# Altium schematic symbol library Induct-filter.SchLib: 218 symbols (part 2 of 2)
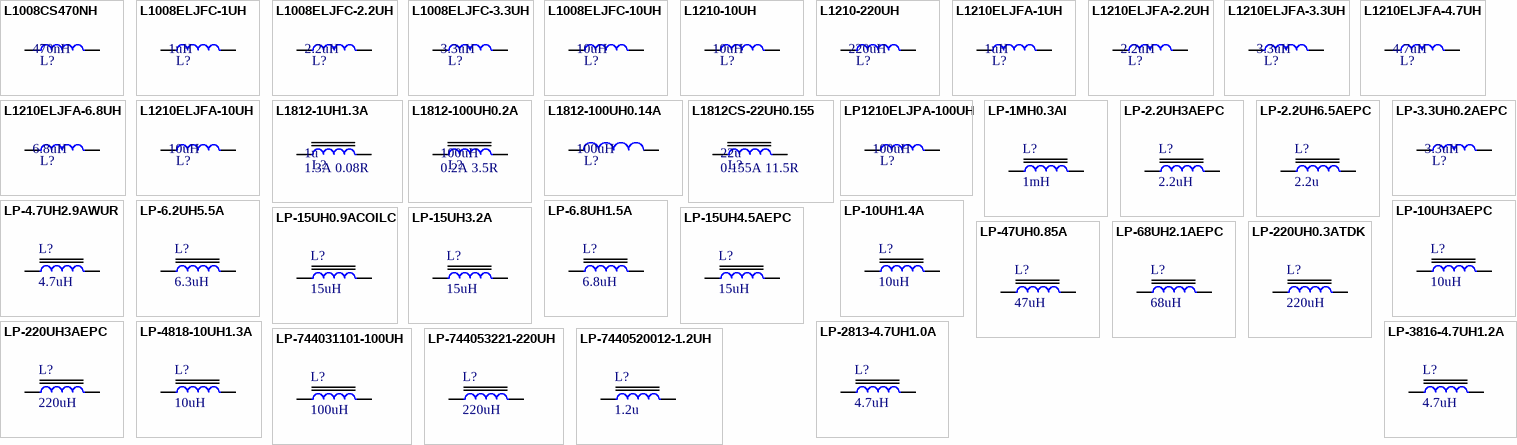
[diagram p6: symbols L1008CS470NH to LP-7440520012-1.2UH]

## LP-68UH2.1AEPC
designator L?, comment 68uH
Power inductor 12.8x12.8x8mm; Manufacturer: Epcos; Manufacturer No: B82477G4683M; Comment2: 2.1A  0.12Ohm; Sort: 320; Tech: SMDR; Package: 12.8x12.8x8mm; Price: 0
signal-integrity model Model Name (Model Description)
footprint L12.8X12.8X8 (Power inductor 12.8x12.8x8mm EPCOS)
pins: 1, 2

## LP-220UH0.3ATDK
designator L?, comment 220uH
Power inductor 7.3x7.3x4.5mm; Manufacturer: TDK; Manufacturer No: SLF7045T-221MR33-PF; Comment2: 0.33A 0.52R; Sort: 320; Tech: SMDR; Price: 0
signal-integrity model Model Name (Model Description)
footprint L7X7X4.5 (SMD inductor 7x7x4.5mm shielded)
pins: 1, 2

## LP-220UH3AEPC
designator L?, comment 220uH
Power inductor 7.3x7.3x4.5mm; Manufacturer: Epcos; Manufacturer No: B82472G6224M000; Comment2: 0.36A 0.88R; Sort: 320; Tech: SMDR; Price: 0
signal-integrity model Model Name (Model Description)
footprint L7.3X7.3X4.5 (SMD inductor 7.3x7.3x4.5mm shielded)
pins: 1, 2

## LP-2813-4.7UH1.0A
designator L?, comment 4.7uH
Power inductor 2.8x2.8x1.3mm WE-TPC; Manufacturer: Wurth Elektronik, Farnell; Manufacturer No: 744029004, 1635826; Comment2: 0.8Asat 0.2R; Sort: 320; Tech: SMDR; Package: Induct 2.8x2.8; Price: 1.05
signal-integrity model Model Name (Model Description)
footprint LP2.8X2.8X1.3 (SMD Power inductor 2.8x2.8x1.3mm shielded)
pins: 1, 2

## LP-3816-4.7UH1.2A
designator L?, comment 4.7uH
Power inductor 3.8x3.8x1.6mm WE-TPC; Manufacturer: Wurth Elektronik, Farnell; Manufacturer No: 744031004, 16535834; Comment2: 1.2A 105mR; Sort: 320; Tech: SMDR; Package: Induct 3.8x3.8; Price: 1.05
signal-integrity model Model Name (Model Description)
footprint LP3.8X3.8X1.6 (SMD Power inductor 3.8x3.8x1.6mm shielded)
pins: 1, 2

## LP-4818-10UH1.3A
designator L?, comment 10uH
Power inductor WE-TPC type LH; Manufacturer: Wurth Elektronik, Farnell; Manufacturer No: 744042100, 1635842; Comment2: 0.15Rdc 1.3Asat 30%; Sort: 320; Tech: SMDR; Package: Pow Induct 4.8x4.8x1.8mm; Price: 1
signal-integrity model Model Name (Model Description)
footprint LP4.8X4.8X1.8 (SMD Power inductor 4.8x4.8x1.8mm shielded)
pins: 1, 2

## LP-744031101-100UH
designator L?, comment 100uH
Power inductor 3.8x3.8x1.6mm, Type L; Manufacturer: Wurth Elektronik, Farnell; Manufacturer No: 744031101, 1635837; Comment2: 30%  0.25Amax  2.4Rdc; Sort: 320; Tech: SMDR; Package: Pow Induct 3.8x3.8x1.6mm; Price: 1.1
signal-integrity model Model Name (Model Description)
footprint LP3.8X3.8X1.6 (SMD Power inductor 3.8x3.8x1.6mm shielded)
pins: 1, 2

## LP-744053221-220UH
designator L?, comment 220uH
Power inductor 5.8x5.8x2.8mm, Type L; Manufacturer: Wurth Elektronik, Farnell; Manufacturer No: 744053221; Comment2: 0.29Asat, 1.25R, 30%; Sort: 320; Tech: SMDR; Package: Pow Induct 5.8x5.8x2.8mm; Price: 0
signal-integrity model Model Name (Model Description)
footprint LP5.8X5.8X2.8 (SMD Power inductor 5.8x5.8x2.8mm shielded)
pins: 1, 2

## LP-7440520012-1.2UH
designator L?, comment 1.2u
Power inductor 5.8x5.8x1.8mm, Type L; Manufacturer: Wurth Elektronik; Manufacturer No: 7440520012; Comment2: 3A, 0.02R, 1.2u at 0.1 MHz; Sort: 320; Tech: SMDR; Package: Pow Induct 5.8x5.8x1.8mm; Price: 0
signal-integrity model Model Name (Model Description)
footprint LP5.8X5.8X1.8 (SMD Power inductor 5.8x5.8x1.8mm shielded)
pins: 1, 2

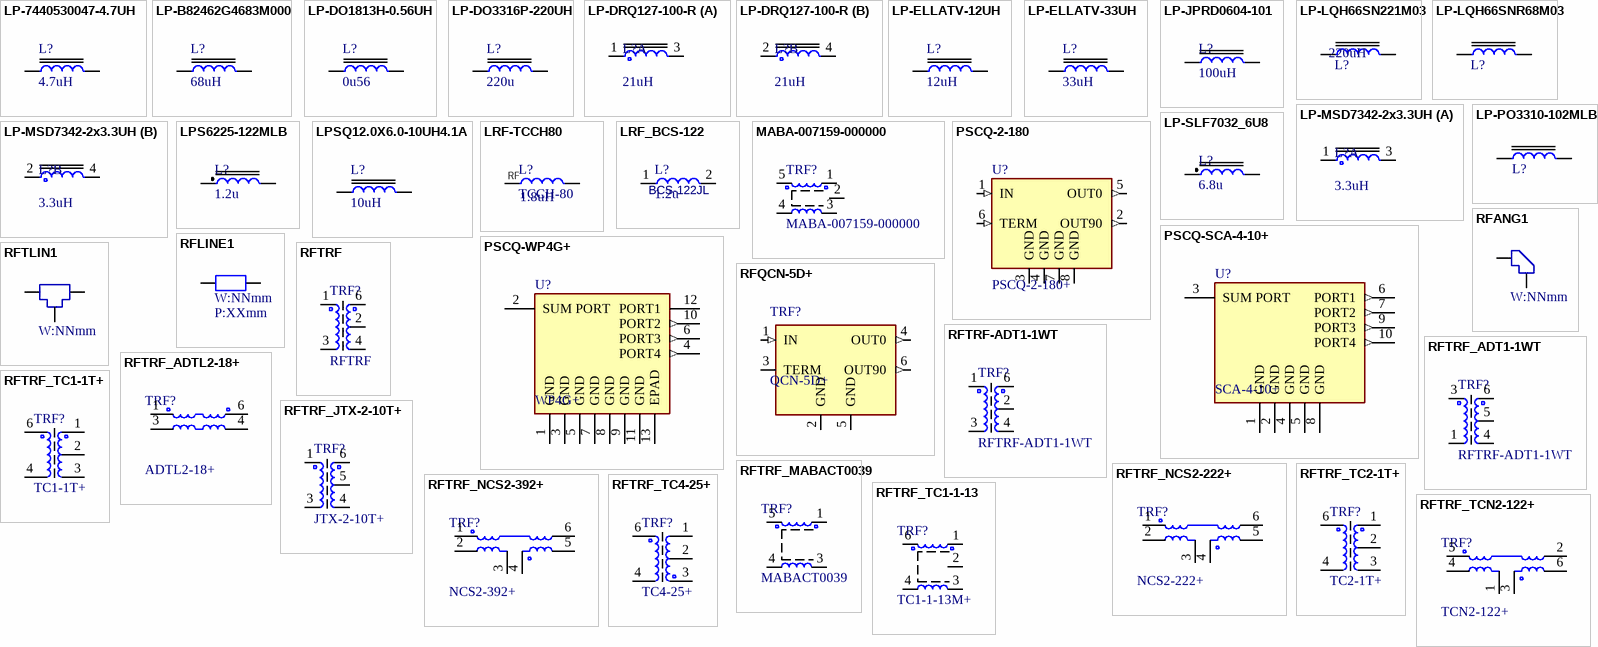
[diagram p4: symbols LP-7440530047-4.7UH to RFTRF_TCN2-122+]

## LP-7440530047-4.7UH
designator L?, comment 4.7uH
Power inductor 5.8x5.8x2.8mm, Type WE-TPC; Manufacturer: Wurth Elektronik, Farnell; Manufacturer No: 7440530047, 1635861; Comment2: 2.4A, 0.038R, 30%; Sort: 320; Tech: SMDR; Package: Pow Induct 5.8x5.8x2.8mm; Price: 1.1
signal-integrity model Model Name (Model Description)
footprint LP5.8X5.8X2.8 (SMD Power inductor 5.8x5.8x2.8mm shielded)
pins: 1, 2

## LP-B82462G4683M000
designator L?, comment 68uH
Power inductor 6.3x6.3x3.0mm; Manufacturer: Epcos; Manufacturer No: B82462G4683M000; Comment2: 0.65A, 0.41R fl 0.1 MHz; Sort: 320; Tech: SMDR; Price: 0
signal-integrity model Model Name (Model Description)
footprint LP6.3X6.3X3.0 (SMD Power inductor 6.3x6.3x3.0mm shielded)
pins: 1, 2

## LP-DO1813H-0.56UH
designator L?, comment 0u56
Power inductor DO1813H; Manufacturer: Coilcraft; Manufacturer No: DO1813H-561ML; Comment2: 6A 0.01R; Sort: 320; Tech: SMDR; Package: Pow Inductor DO1813H; Price: 0
signal-integrity model Model Name (Model Description)
footprint LDO1813H (Power Inductor 9x6x5mm)
pins: 1, 2

## LP-DO3316P-220UH
designator L?, comment 220u
Power inductor DO3316P; Manufacturer: Coilcraft; Manufacturer No: DO3316P-224 L; Comment2: 0.8A 0.61R; Sort: 320; Tech: SMDR; Package: Pow Inductor DO3316P; Price: 0
signal-integrity model Model Name (Model Description)
footprint LDO3316 (DO3316 power inductor smd)
pins: 1, 2

## LP-DRQ127-100-R
designator L?, comment 21uH
Power dual inductor 12.5x12.5x8mm; Manufacturer: Coilcraft; Manufacturer No: DRQ127-100-R; Comment2: 3.02Arms  34.3mR; Sort: 320; Tech: SMDR; Package: Induct 12.5x12.5x8mm; Price: 1.08; Supplier: Digi-Key; Supplier No: 513-1143-2-ND
footprint DRQ127 (Power inductor 12.5x12.5x8mm)
part A pins: 1, 3
part B pins: 2, 4

## LP-ELLATV-12UH
designator L?, comment 12uH
Power inductor 10x10x4.2mm shielded; Manufacturer: Panasonic, Farnell; Manufacturer No: ELLATV120M, 1539524; Comment2: 2.3A 25mR 20%; Sort: 320; Tech: SMDR; Package: Pow Induct 10x10x4.2mm; Price: 1,6
signal-integrity model Model Name (Model Description)
footprint LP10X10X4.2 (Power inductor 10x10x4.2mm)
pins: 1, 2

## LP-ELLATV-33UH
designator L?, comment 33uH
Power inductor 10x10x4.2mm shielded; Manufacturer: Panasonic, Digikey; Manufacturer No: ELLATV330M, PCD1754CT-ND; Comment2: 1.8A 62mR 20%; Sort: 320; Tech: SMDR; Package: Pow Induct 10x10x4.2mm; Price: 2
signal-integrity model Model Name (Model Description)
footprint LP10X10X4.2 (Power inductor 10x10x4.2mm)
pins: 1, 2

## LP-JPRD0604-101
designator L?, comment 100uH
SMD power inductor shielded; Manufacturer: Jantek TW; Manufacturer No: JPRD0604-101M; Comment2: 0.65A 0.36R; Sort: 310; Tech: SMDR; Price: 0
signal-integrity model Model Name (Model Description)
footprint L-JPRD0604 (SMD inductor 6.7x6.7x4mm shielded)
pins: 1, 2

## LP-LQH66SN221M03
designator L?, comment 220uH
Inductor Large Current Size 2525; Manufacturer: Murata; Manufacturer No: LQH66SN221M03; Comment2: 0.35A 0.79Rdc 20%; Sort: 310; Tech: SMDR; Package: Inductor Chip 2525; Price: 0
signal-integrity model Model Name (Model Description)
footprint LC2525-1 (Chip capacitor 6.3x6.3x4.7mm)
footprint LC0603-1 (Chip  inductor  0603 (1608))
footprint LC0805-1 (Chip inductor  0805)
pins: 1, 2

## LP-LQH66SNR68M03
designator L?, comment 0u68  (value not drawn)
Inductor Large Current Size 2525; Manufacturer: Murata; Manufacturer No: LQH66SNR68M03; Comment2: 5.3A 0.010Rdc 20%; Sort: 310; Tech: SMDR; Package: Inductor Chip 2525; Price: 0
signal-integrity model Model Name (Model Description)
footprint LC2525-1 (Chip capacitor 6.3x6.3x4.7mm)
footprint LC0603-1 (Chip  inductor  0603 (1608))
footprint LC0805-1 (Chip inductor  0805)
pins: 1, 2

## LP-MSD7342-2x3.3UH
designator L?, comment 3.3uH
Power dual inductor 7.3x7.3x4.2mm; Manufacturer: Coilcraft; Manufacturer No: MSD7342-332MLB; Comment2: 2.05Arms  37mR; Sort: 320; Tech: SMDR; Package: Induct 7.3x7.3x4.2mm; Price: 1
signal-integrity model Model Name (Model Description)
footprint LP7.5X7.5X4.6-4 (SMD Power inductor 7.3x7.3x3.2mm shielded 4pin dual induct)
part A pins: 1, 3
part B pins: 2, 4

## LP-PO3310-102MLB
designator L?, comment LPO3310-102  (value not drawn)
Low profile inductor 1uH 1.6A; Manufacturer: Coilcraft; Manufacturer No: LPO3310-102MLB; Comment2: 1uH 1.6A 0.076R; Sort: 310; Tech: SMDR; Package: LPO3310; Price: 0
signal-integrity model Model Name (Model Description)
footprint LPO3310 (SMD inductor 4.1x3.3x1mm shielded)
pins: 1, 2

## LP-SLF7032_6U8
designator L?, comment 6.8u
Power inductor; Manufacturer: TDK; Manufacturer No: SLF7032T-6R8M1R6; Comment2: 1.6A 0.041R; Sort: 310; Tech: SMDR; Price: 0
signal-integrity model Model Name (Model Description)
footprint SLF7032_1 (SMD Inductor for power line)
pins: 1, 2

## LPS6225-122MLB
designator L?, comment 1.2u
Power inductor; Manufacturer: Coilcraft; Manufacturer No: LPS6225-122MLB; Comment2: 5.4A 0.04R; Sort: 310; Tech: SMDR; Price: 0
signal-integrity model Model Name (Model Description)
footprint LPS6225 (Power inductor 6x6x2.4mm)
pins: 1, 2

## LPSQ12.0X6.0-10UH4.1A
designator L?, comment 10uH
Power inductor 12.0x12.0x6.0mm WE-PD; Manufacturer: Wuerth Elektronik; Manufacturer No: 74477110; Comment2: 4.1A 5.6Asat 0.025R 20%; Sort: 320; Tech: SMDR; Package: Induct 12.0X12.0X6.0mm; Price: 1.82; RevDate: 13.02.09
signal-integrity model Model Name (Model Description)
footprint LP12.0X12.0X6 (Power inductor 12.0x12.0x6.0mm Wuerth WE-PD L)
pins: 1, 2

## LRF-TCCH80
designator L?, comment TCCH-80  Comment2: 1.8uH
Wideband RF choke; Manufacturer: MiniCircuits; Manufacturer No: TCCH-80+; Sort: 312; Tech: SMDR; Package: GU1041; Price: 0.8
footprint LGU1041 (RF Choke 3.81x3.81mm 4pin)
pins: 1, 3
text: RF

## LRF_BCS-122
designator L?, comment 1.2u  Manufacturer No: BCS-122JL
Wideband RF choke; Manufacturer: Coilcraft; Sort: 312; Tech: SMDR; Comment2: 0.2A  1.05R; Price: 0.8
footprint LRF-BCS122 (Conical inductor 3.05x2.54x2.8mm)
pins: 1, 2

## MABA-007159-000000
designator TRF?
RF transformator Macom 5pin; Sort: 330; Tech: SMDR; Price: 0
footprint SM-22
pins: 1, 2, 3, 4, 5

## PSCQ-2-180
designator U?, comment PSCQ-2-180+
Power Splitter / Combiner 120-180MHz; Manufacturer: Mini Circuits; Sort: 510; Tech: SMDR; Manufacturer No: PSCQ-2-180+; Package: A01; Price: 0
footprint AO1 (PSCQ-2 Minicircuits tht)
pins: 1 IN (in), 2 OUT90 (out), 3 GND (power), 4 GND (power), 5 OUT0 (out), 6 TERM (in), 7 GND (power), 8 GND (power)

## PSCQ-SCA-4-10+
designator U?, comment SCA-4-10+
Power Splitter / Combiner 4-Way, 50R, 5 MHz to 1000 MHz; Manufacturer: Mini Circuits; Sort: 510; Tech: SMDR; Manufacturer No: SCA-4-10+; Package: DZ943; Price: 0
footprint DZ943
pins: 1 GND (power), 2 GND (power), 3 SUM PORT, 4 GND (power), 5 GND (power), 6 PORT1 (out), 7 PORT2 (out), 8 GND (power), 9 PORT3 (out), 10 PORT4 (out)

## PSCQ-WP4G+
designator U?, comment WP4G+
Power Splitter / Combiner 4-Way, 50R, 1240 MHz to 1660 MHz; Manufacturer: Mini Circuits; Sort: 510; Tech: SMDR; Manufacturer No: WP4G+; Package: DQ1225; Price: 0
footprint DQ1225 (QFN, 12-Leads, Body 3,0x3,0mm (max), Pitch 0,51mm, IPC Medium Density)
pins: 1 GND (power), 2 SUM PORT, 3 GND (power), 4 PORT4 (out), 5 GND (power), 6 PORT3 (out), 7 GND (power), 8 GND (power), 9 GND (power), 10 PORT2 (out), 11 GND (power), 12 PORT1, 13 EPAD (power)

## RFANG1
designator RFA?, comment W:NNmm  (no BOM)
RF line Angle; Sort: 900; Tech: MECH; Price: 0
signal-integrity model Model Name (Model Description)
footprint RFA1.19MM (RF angle 1.19mm wide)
pins: 1, 2

## RFLINE1
designator RFL?, comment W:NNmm  Comment2: P:XXmm  (no BOM)
RF line; Sort: 900; Tech: MECH; Price: 0
signal-integrity model Model Name (Model Description)
footprint RFL1.19MM (RF line 1.19mm wide)
pins: 1, 2

## RFQCN-5D+
designator TRF?, comment QCN-5D+
Power Splitter / Combiner 330-580MHz; Manufacturer: MiniCircuits; Sort: 330; Tech: SMDR; Manufacturer No: QCN-5D+; Package: Chip Filter 1206 6pin; Price: 0
footprint FV1206-6 (Filter chip 1206 6pad)
pins: 1 IN (in), 2 GND (power), 3 TERM, 4 OUT0 (out), 5 GND (power), 6 OUT90 (out)

## RFTLIN1
designator RFT?, comment W:NNmm  (no BOM)
RF line T; Sort: 900; Tech: MECH; Price: 0
signal-integrity model Model Name (Model Description)
footprint RFt1.19MM (RF Tjoin 1.19mm wide)
pins: 1, 2, 3

## RFTRF
designator TRF?
RF transformator MiniCircuits 6pin; Sort: 330; Tech: SMDR; Price: 0
footprint RFTRF-CD452
footprint AT224-1 (RF transformer 5pin)
footprint SM-22
pins: 1, 2, 3, 4, 5 hidden, 6

## RFTRF-ADT1-1WT
designator TRF?
RF transformator MiniCircuits 6pin; Sort: 330; Tech: SMDR; Manufacturer: *; Manufacturer No: *; Price: 0
footprint RFTRF-CD452
pins: 1, 2, 3, 4, 5 hidden, 6

## RFTRF_ADT1-1WT
designator TRF?, comment RFTRF-ADT1-1WT
RF transformator MiniCircuits 6pin; Sort: 330; Tech: SMDR; Manufacturer: *; Manufacturer No: *; Price: 0
footprint BH292 (RF Transformer 6 pin 7.1x7.9x5.7mm)
pins: 1, 2 hidden, 3, 4, 5, 6

## RFTRF_ADTL2-18+
designator TRF?, comment ADTL2-18+
RF transformer MiniCircuits; Comment2: 50 Ohm 30 to 1800MHz; Sort: 330; Tech: SMDR; Manufacturer: MiniCircuits; Manufacturer No: ADTL2-18+; Package: RF trf CD542
footprint RFTRF-CD452
pins: 1, 3, 4, 6

## RFTRF_JTX-2-10T+
designator TRF?, comment JTX-2-10T+
RF transformer 50-1000MHz 75R; Manufacturer: MiniCircuits; Sort: 330; Tech: SMDR; Manufacturer No: JTX-2-10T+; Comment2: 50 - 1000MHz  75R; Package: BH292; Price: 7
footprint BH292 (RF Transformer 6 pin 7.1x7.9x5.7mm)
pins: 1, 2 hidden, 3, 4, 5, 6

## RFTRF_MABACT0039
designator TRF?, comment MABACT0039
RF balun  5pin; Manufacturer: Macom; Sort: 330; Tech: SMDR; Manufacturer No: MABACT0039; Package: RF trf SM-138; Price: 0
footprint RFTRF-SM-138 (RF balun 5pin)
pins: 1, 2 hidden, 3, 4, 5

## RFTRF_NCS2-222+
designator TRF?, comment NCS2-222+
RF transformer MiniCircuits; Comment2: 50 Ohm 1275 to 2200MHz; Sort: 330; Tech: SMDR; Manufacturer: MiniCircuits; Manufacturer No: NCS2-222+; Package: RF trf GE0805C-1
footprint RFTRF_GE0805C-1 (6pin)
pins: 1, 2, 3, 4, 5, 6

## RFTRF_NCS2-392+
designator TRF?, comment NCS2-392+
RF transformer MiniCircuits; Comment2: 50 Ohm 3000 to 3900MHz; Sort: 330; Tech: SMDR; Manufacturer: MiniCircuits; Manufacturer No: NCS2-392+; Package: RF trf GE0805C-1
footprint RFTRF_GE0805C-1 (6pin)
pins: 1, 2, 3, 4, 5, 6

## RFTRF_TC1-1-13
designator TRF?, comment TC1-1-13M+
RF transformer MiniCircuits  5pin; Sort: 330; Tech: SMDR; Manufacturer: MiniCircuits; Manufacturer No: TC1-1-13M+; Package: RF trf AT224; Price: 0
footprint RFTRF-AT224-1 (RF transformer 5pin)
pins: 1, 2, 3, 4, 6

## RFTRF_TC1-1T+
designator TRF?, comment TC1-1T+
RF transformer MiniCircuits  5pin; Sort: 330; Tech: SMDR; Manufacturer: MiniCircuits; Manufacturer No: TC1-1T+; Package: RF trf AT224; Price: 1.2
footprint RFTRF-AT224-1 (RF transformer 5pin)
pins: 1, 2, 3, 4, 6

## RFTRF_TC2-1T+
designator TRF?, comment TC2-1T+
RF transformer MiniCircuits  5pin; Sort: 330; Tech: SMDR; Manufacturer: MiniCircuits; Manufacturer No: TC2-1T+; Package: RF trf AT224; Price: 1.2
footprint RFTRF-AT224-1 (RF transformer 5pin)
pins: 1, 2, 3, 4, 6

## RFTRF_TC4-25+
designator TRF?, comment TC4-25+
RF transformer MiniCircuits; Comment2: 500 to 2500MHz; Sort: 330; Tech: SMDR; Manufacturer: MiniCircuits; Manufacturer No: TC4-25+; Package: RF trf AT224; Price: 1.2
footprint RFTRF-AT224-1 (RF transformer 5pin)
pins: 1, 2, 3, 4, 6

## RFTRF_TCN2-122+
designator TRF?, comment TCN2-122+
RF transformer MiniCircuits  6pin; Sort: 330; Tech: SMDR; Manufacturer: MiniCircuits; Manufacturer No: TCN2-122+; Package: RF trf TCN2-122; Price: 0
footprint RFTRF-TCN (RF transformer 6pin)
pins: 1, 2, 3, 4, 5, 6

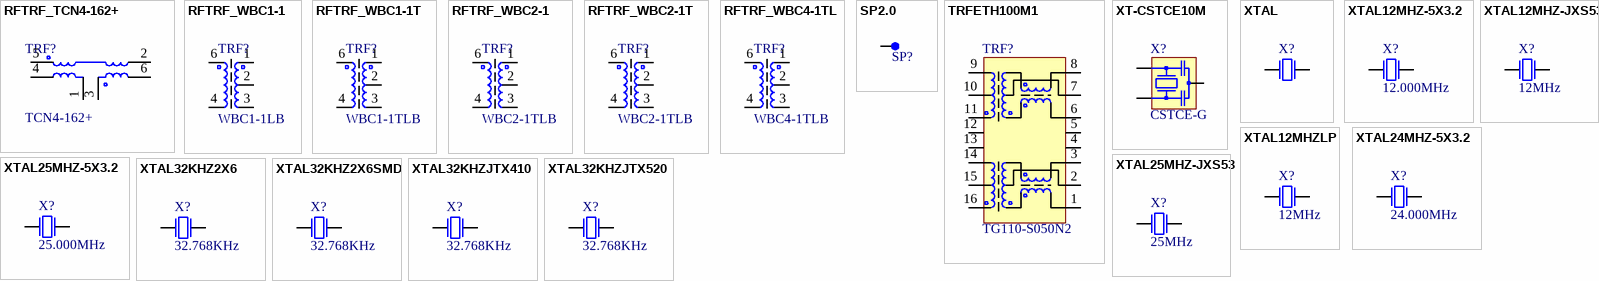
[diagram p5: symbols RFTRF_TCN4-162+ to XTAL32KHZJTX520]

## RFTRF_TCN4-162+
designator TRF?, comment TCN4-162+
RF transformer MiniCircuits  6pin; Comment2: 720 to 1600 MHz 50R; Sort: 330; Tech: SMDR; Manufacturer: MiniCircuits; Manufacturer No: TCN4-162+; Package: RF trf TCN4-162; Price: 0
footprint RFTRF-TCN (RF transformer 6pin)
pins: 1, 2, 3, 4, 5, 6

## RFTRF_WBC1-1
designator TRF?, comment WBC1-1LB
RF transformer Coilcraft 5 pin 1:1; 0.4-600MHz; Sort: 330; Tech: SMDR; Manufacturer: Coilcraft; Manufacturer No: WBC1-1LB; Price: 0
footprint WBC1-1 (RF transformer 5pin)
pins: 1, 2, 3, 4, 5 hidden, 6

## RFTRF_WBC1-1T
designator TRF?, comment WBC1-1TLB
RF transformer Coilcraft 5 pin 1:1; 0.25-750MHz; Sort: 330; Tech: SMDR; Manufacturer: Coilcraft; Manufacturer No: WBC1-1TLB; Package: RF Trf WBC1-1; Price: 0
footprint WBC1-1 (RF transformer 5pin)
pins: 1, 2, 3, 4, 5 hidden, 6

## RFTRF_WBC2-1
designator TRF?, comment WBC2-1TLB
RF transformer Coilcraft 5 pin 1:2;  0.2-500MHz; Sort: 330; Tech: SMDR; Manufacturer: Coilcraft; Manufacturer No: WBC2-1TLB; Package: RF trf WBC; Price: 0
footprint WBC1-1 (RF transformer 5pin)
pins: 1, 2, 3, 4, 5 hidden, 6

## RFTRF_WBC2-1T
designator TRF?, comment WBC2-1TLB
RF transformer Coilcraft 5 pin 1:2;  0.2-500MHz; Sort: 330; Tech: SMDR; Manufacturer: Coilcraft; Manufacturer No: WBC2-1TLB; Package: RF trf WBC; Price: 0
footprint WBC1-1 (RF transformer 5pin)
pins: 1, 2, 3, 4, 5 hidden, 6

## RFTRF_WBC4-1TL
designator TRF?, comment WBC4-1TLB
RF transformer Coilcraft 5 pin 1:4;  0.25-750MHz; Sort: 330; Tech: SMDR; Manufacturer: Coilcraft; Manufacturer No: WBC4-1TLB; Package: RF trf WBC; Price: 0
footprint WBC1-1 (RF transformer 5pin)
pins: 1, 2, 3, 4, 5 hidden, 6

## SP2.0
designator SP?  (value not drawn)  (no BOM)
Wire solder pin 2.0mm; Sort: 610; Tech: THDW; Price: 0
footprint SP1.5 (Test point 50mils)
pins: 1

## TRFETH100M1
designator TRF?, comment TG110-S050N2
Ethernet transfomer 10/100M; Manufacturer: Halo Electronics Inc; Sort: 330; Tech: SMDR; Manufacturer No: TG110-S050N2; Price: 0
footprint SOIC16-N2 (Small IC 16 pin transformer)
pins: 1, 2, 3, 4, 5 hidden, 5, 6, 7, 8, 9, 10, 11, 12, 13, 14, 15, 16

## XT-CSTCE10M
designator X?, comment CSTCE-G
Crystal Oscillator; Manufacturer: Murata; Manufacturer No: CSTCE10M0GA52; Comment2: 10.0MHz; Sort: 380; Tech: SMDR; Price: 0
simulation model XTAL (Spice Subcircuit)
footprint Q-CSTCE-G (Quartz resonator CSTCE-G 3.2x1.3X0.8mm)
pins: 1 XT1, 2 GND, 3 XT2

## XTAL
designator X?
Crystal Oscillator; Sort: 380; Tech: SMDR; Price: 0
footprint R38 (Crystal, Thru-Hole; 2 Leads; Body 3.1 x 8.2 mm (Dia.xH))
simulation model XTAL (Spice Subcircuit)
pins: 1 OSC1, 2 OSC2

## XTAL12MHZ-5X3.2
designator X?, comment 12.000MHz
Quartz crystal smd 5x3.2mm; Manufacturer: Farnell, Digikey, Digikey; Manufacturer No: 1538840, 300-8197-1-ND, CTX639CT-ND; Comment2: +-30ppm; Sort: 380; Tech: SMDR; Package: Crystal 5x3.2mm; Price: 0
simulation model XTAL (Spice Subcircuit)
footprint Model Name (Footprint not found)
footprint Q-5x3.2 (Quartz crystal 5x3.2x0.8mm)
pins: 1 OSC1, 3 OSC2

## XTAL12MHZ-JXS53
designator X?, comment 12MHz
Quartz crystal smd; Manufacturer: Jauch; Manufacturer No: Q12.0-JXS53-12-30/30-FU; Sort: 380; Tech: SMDR; Price: 0
simulation model XTAL (Spice Subcircuit)
footprint Model Name (Footprint not found)
footprint Q-JXS53 (Quartz crystal 5x3.2x0.8mm)
pins: 1 OSC1, 3 OSC2

## XTAL12MHZLP
designator X?, comment 12MHz
Quartz crystal 12MHz; Manufacturer: Jauch; Manufacturer No: Q12MHz-SMU4; Sort: 380; Tech: SMDR; Price: 0
simulation model XTAL (Spice Subcircuit)
footprint Q-SMU4 (Quartz crystal 12.5x4.8x4mm)
pins: 1 OSC1, 2 OSC2

## XTAL24MHZ-5X3.2
designator X?, comment 24.000MHz
Quartz crystal smd 5x3.2mm; Manufacturer: Farnell, Digikey; Manufacturer No: 1640934, 631-1026-1-ND; Comment2: +-30ppm; Sort: 380; Tech: SMDR; Package: Crystal 5x3.2mm; Price: 0
simulation model XTAL (Spice Subcircuit)
footprint Model Name (Footprint not found)
footprint Q-5x3.2 (Quartz crystal 5x3.2x0.8mm)
pins: 1 OSC1, 3 OSC2

## XTAL25MHZ-5X3.2
designator X?, comment 25.000MHz
Quartz crystal smd 5x3.2mm; Manufacturer: Farnell, Digikey, Digikey; Manufacturer No: 1538850, 300-8218-1-ND, CTX652CT-ND; Comment2: +-30ppm; Sort: 380; Tech: SMDR; Package: Crystal 5x3.2mm; Price: 0
simulation model XTAL (Spice Subcircuit)
footprint Model Name (Footprint not found)
footprint Q-5x3.2 (Quartz crystal 5x3.2x0.8mm)
pins: 1 OSC1, 3 OSC2

## XTAL25MHZ-JXS53
designator X?, comment 25MHz
Quartz crystal smd; Manufacturer: Jauch; Manufacturer No: Q25.0-JXS53-12-30/30-FU; Sort: 380; Tech: SMDR; Price: 0
simulation model XTAL (Spice Subcircuit)
footprint Model Name (Footprint not found)
footprint Q-JXS53 (Quartz crystal 5x3.2x0.8mm)
pins: 1 OSC1, 3 OSC2

## XTAL32KHZ2X6
designator X?, comment 32.768KHz
Quartz crystal 32.768KHz; Manufacturer: Jauch; Manufacturer No: Q0.032768MHz-MMTF32; Sort: 380; Tech: SMDR; Price: 0
simulation model XTAL (Spice Subcircuit)
footprint MMTF32
pins: 1 OSC1, 2 OSC2

## XTAL32KHZ2X6SMD
designator X?, comment 32.768KHz
Quartz crystal 32.768KHz SMD; Manufacturer: MicroCrystal, Farnell; Manufacturer No: MS1V-T1K 32.768KHZ +-20PPM 12.5PF, 1539359; Sort: 380; Tech: SMDR; Package: XTAL 2X6SMD; Price: 0
simulation model XTAL (Spice Subcircuit)
footprint Q-2X6SMD (Quartz D2x6mm SMD)
pins: 1 OSC1, 2 OSC2, 3 hidden to GND

## XTAL32KHZJTX410
designator X?, comment 32.768KHz
Quartz crystal 32.768KHz; Manufacturer: Jauch; Manufacturer No: Q0.032768-JTX410-12.5-30-T1; Sort: 380; Tech: SMDR; Price: 0
simulation model XTAL (Spice Subcircuit)
pins: 1 OSC1, 2 OSC2

## XTAL32KHZJTX520
designator X?, comment 32.768KHz
Quartz crystal 32.768KHz; Manufacturer: Jauch; Manufacturer No: Q0.032768-JTX520-12.5-30; Sort: 380; Tech: SMDR; Price: 0
simulation model XTAL (Spice Subcircuit)
footprint Q-JTX520 (Quartz crystal JTX520 4.8x1.9x0.8mm)
pins: 1 OSC1, 2 OSC2